# EAGLE library part TPS63070 (library jack_IC)
2-V to 16-V Buck-Boost Converter With 3.6-A Switch Current Reccomended Inductor: https://www.digikey.com/product-detail/en/vishay-dale/IHLP2525CZER1R5M01/541-1007-1-ND/1680138 Reccomended Input Capacitor (2x): https://www.digikey.com/product-detail/en/murata-electronics-north-america/GRM21BC71E106KE11L/490-10496-1-ND/5026419 Reccomended Input and output Capacitor (1x on input and 1x on output): https://www.digikey.com/product-detail/en/samsung-electro-mechanics/CL10A106MA8NRNC/1276-1869-1-ND/3889955 Reccomended Output Capacitor (3x): https://www.digikey.com/product-detail/en/murata-electronics-north-america/GRM21BC81C226ME44L/490-9956-1-ND/5026425
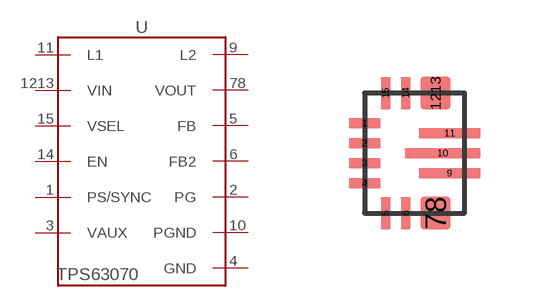
[diagram p11: symbol with the pads of VQFN; footprint VQFN]

Designator prefix U

## TPS63070  [VQFN]
1  PS/SYNC
2  PG
3  VAUX
4  GND
5  FB
6  FB2
9  L2
10  PGND
11  L1
14  EN
15  VSEL
78  VOUT
1213  VIN

## Footprint VQFN (pad centres in mm)
smd 0.8 x 0.25: 1 -1.25,0.75; 2 -1.25,0.25; 3 -1.25,-0.25; 4 -1.25,-0.75
smd 0.25 x 0.8: 5 -0.725,-1.5; 6 -0.225,-1.5; 14 -0.225,1.5; 15 -0.725,1.5
smd 1.55 x 0.25: 9 0.875,-0.5; 11 0.875,0.5
smd 1.9 x 0.25: 10 0.7,0
smd 0.75 x 0.8: 78 0.525,-1.5; 1213 0.525,1.5